# Altium footprint library PCB51.PcbLib: 22 footprints (part 2 of 2)
Each footprint in its own frame and in the unit in brackets; x right, y up, seen from the top. Pads: shape width x height; smd on the part's side, far side on the other; paste and mask are expansions set on the pad; w line width, h text height; cw(c..) or ccw(c..) is an arc to the next point about the centre after c.
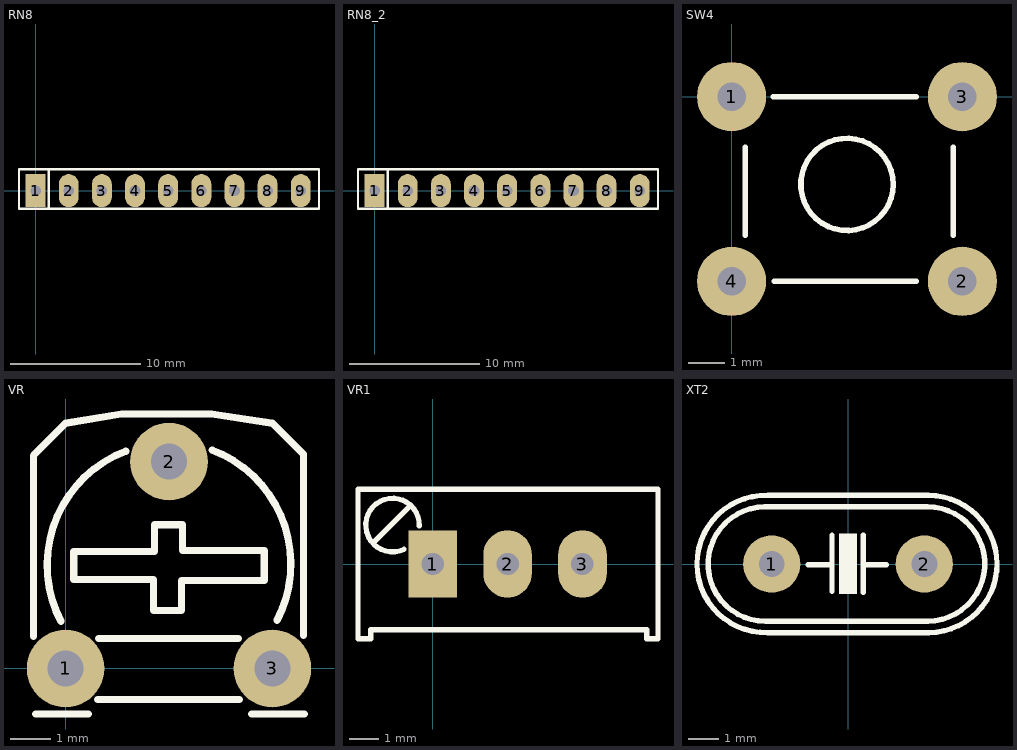
[diagram p1: the footprints below, top view; thin cyan lines are the x and y axes]

## RN8 [mil] "R SIP8, 9 Pin"
height 200
pads (9):
  rect 60x100 hole 32: 1(0,0)
  oval 60x100 hole 32: 2(100,0) 3(200,0) 4(300,0) 5(400,0) 6(500,0) 7(600,0) 8(700,0) 9(800,0)
Top Overlay:
  lines w7: 40,-55 40,65 ; -50,-55 855,-55 855,65 -50,65 -50,-55
3D body "SW3dPS-Resistor Networks-1.STEP": height 219.29, standoff -115.35, extent -42.91,-20 842.92,29.21

## RN8_2 [mil]
pads (9):
  rect 60x100 hole 32: 1(0,0)
  oval 60x100 hole 32: 2(100,0) 3(200,0) 4(300,0) 5(400,0) 6(500,0) 7(600,0) 8(700,0) 9(800,0)
Top Overlay:
  lines w7: 40,-55 40,65 ; -50,-55 855,-55 855,65 -50,65 -50,-55
3D body "SW3dPS-Resistor Networks-1.STEP": height 219.29, standoff -115.35, extent -42.91,-20 842.92,29.21

## SW4 [mil] "SW button 4pin, 250 x250 mil"
height 100
pads (4):
  round 75 hole 31: 1(0,0) 2(250,-200) 3(250,0) 4(0,-200)
Top Overlay:
  circle w6: c125,-95 r50
  lines w6: 15,-150 15,-55 ; 45,0 200,0 ; 46,-200 200,-200 ; 240,-150 240,-55
  lines w7: 239,-215 240,-214
3D body "SW3dPS-.STEP": height 275.59, standoff -137.8, extent -35.51,-220 275.51,24.09

## VR [mil] "Resistor Variable"
height 200
pads (3):
  round 75 hole 35: 1(0,0) 2(100,200) 3(200,0)
Top Overlay:
  lines w7: -31,31 -31,206 0,237 54,246 141.5,246 200,237 230,207 230,32 ; -29,-44 22,-44 ; -4.35,45.34 cw(c100,100) 58.1,210.1 ; 8,113 8,86 85,86 85,56 112,56 112,85 192,85 192,114 113,114 113,139 86,139 86,113 9,113 ; 31,-30 168,-30 ; 32,29 167,29 ; 141.9,211.1 cw(c100,101) 204.35,46.34 ; 180,-44 231,-44
3D body "SW3dPS-Trimpot Horizontal.STEP": height 165.35, standoff -220.47, extent -86.85,-30 306.85,371.57

## VR1 [mil] "Variable Resistor"
height 400
pads (3):
  rect 65x90 hole 30: 1(0,0)
  oval 65x90 hole 30: 2(100,0) 3(200,0)
Top Overlay:
  lines w7: -80,28 -30,78 ; -38.6,19.63 cw(c-53.79,52.05) -18.01,50.77 ; -100,-100 -83,-100 -83,-88 286,-88 286,-100 301,-100 301,100 -100,100 -100,-100
3D body "SW3dPS-Bourns_3299W.STEP": height 455, standoff -45, extent -87.5,-130 287.5,110

## XT2 [mil] "Footpin for Crystal 2 pin"
height 334.65
pads (2):
  round 75 hole 34: 1(-100,0) 2(100,0)
Top Overlay:
  region: 11.5,40 11.5,-39 -11.5,-39 -11.5,40
  lines w7: -109,75 ccw(c-108.5,0) -108.27,-75 ; -106.97,-75 103.03,-75 ; -105.97,75 104.03,75 ; -105.02,-90 105.91,-90 ccw(c105.31,0) 105.03,90 -104.97,90.01 ccw(c-108,0.06) -105.02,-89.89 ; -52,-1 -21,-1 ; -21,-36 -21,38 ; 20,-37 20,38 ; 20,-1 50,-1 ; 104,75 cw(c104.23,0) 104.73,-75
3D body "SW3dPS-HP49US.STEP": height 137.8, standoff -157.48, extent -233.43,-93.07 213.43,90